# Altium schematic symbol library 0039288020.Schlib: 1 symbol
Pins are listed as number, name and electrical type; pins without a type are passive.

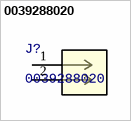
[diagram p0: symbol 0039288020]

## 0039288020
designator J?
Mini-Fit Jr. vertical header, 2 positions
pins: 1 + (power) "GND", 2 - (power)